# Altium integrated library Silicon Labs Isolation and Power.IntLib: 421 symbols (part 3 of 19)
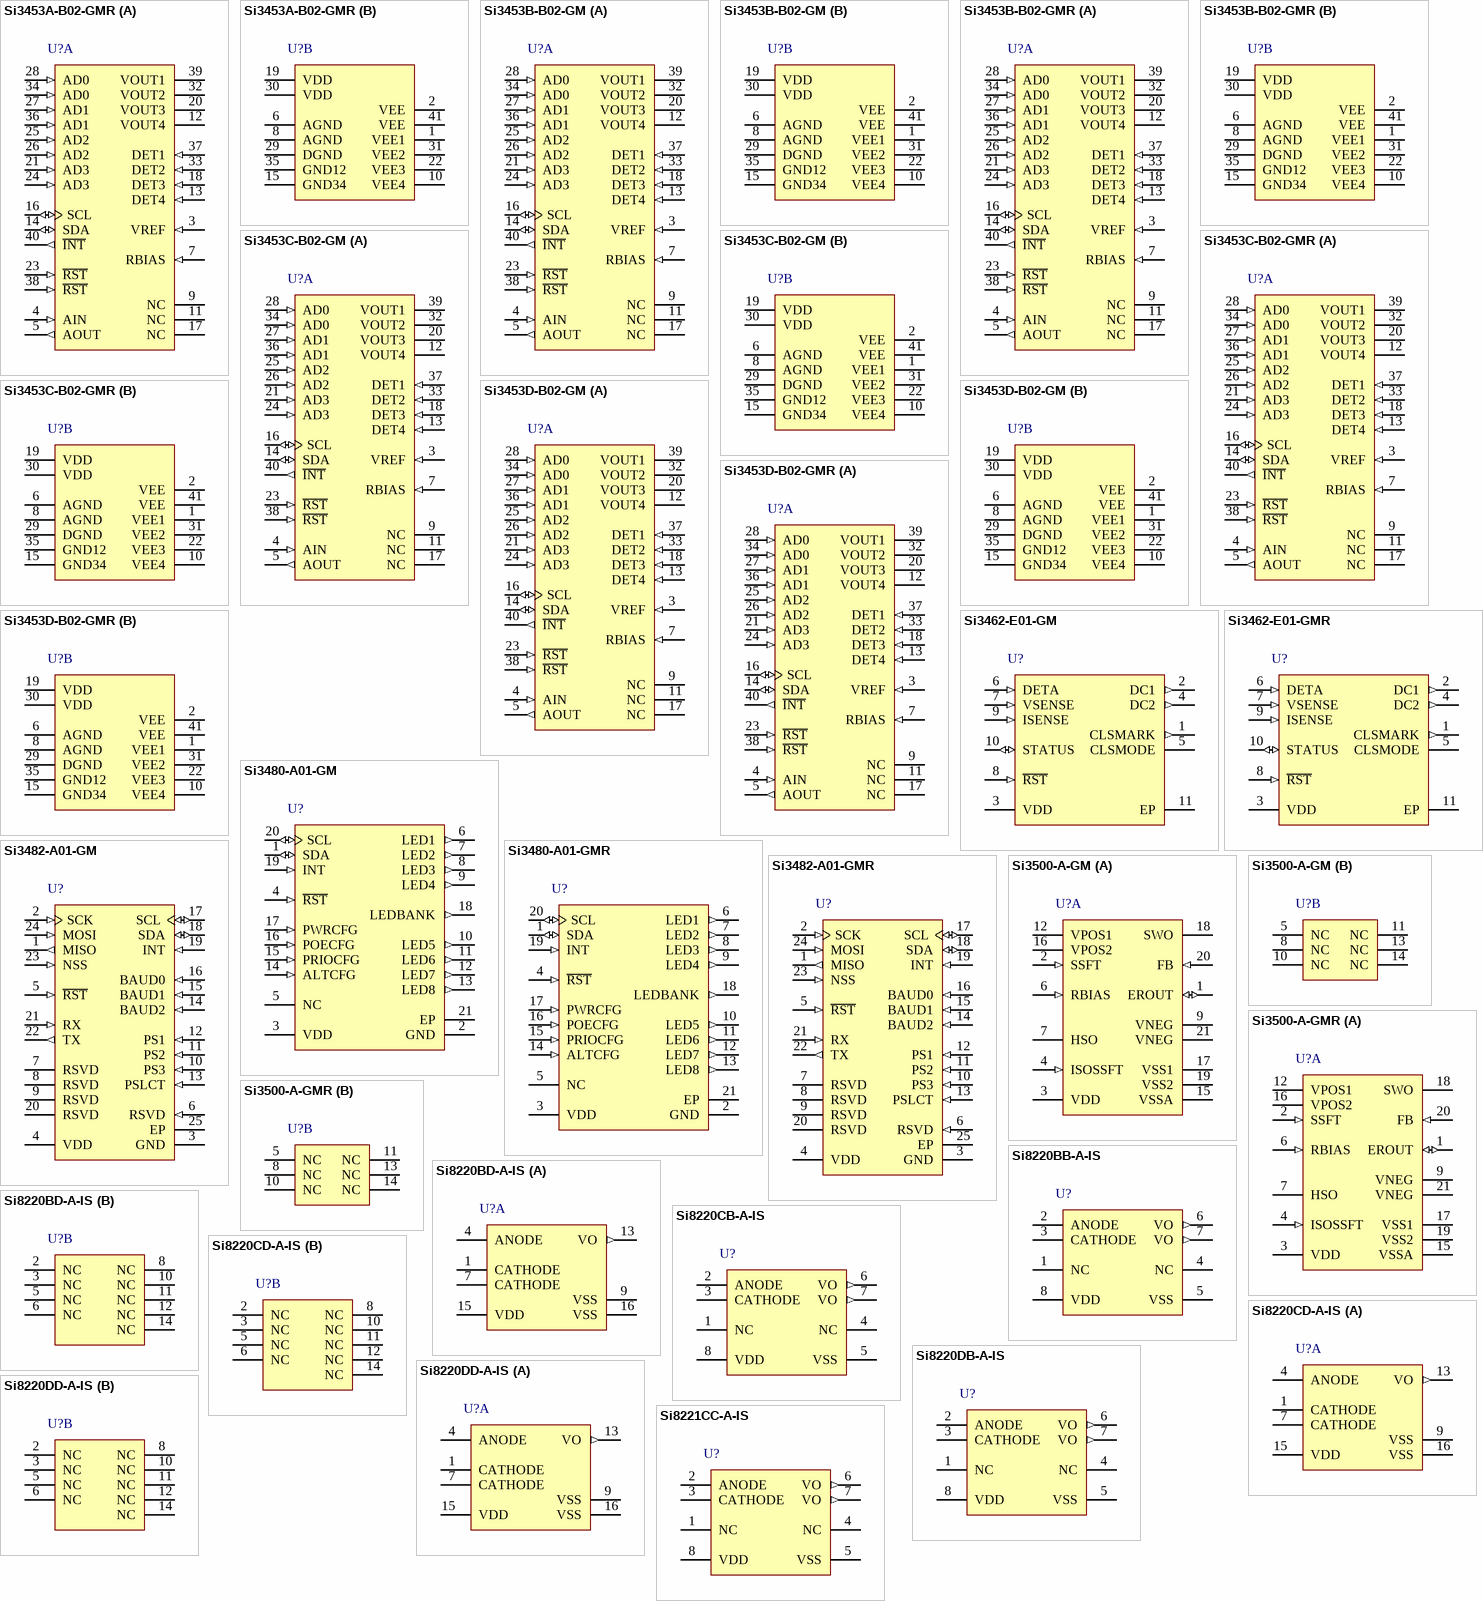
[diagram p16: symbols Si3453A-B02-GMR to Si8221CC-A-IS]

## Si3453C-B02-GMR
designator U?
Quad High-Voltage Port Controller for PoE and PoE+ PSEs, 40 W Maximum Output Power, -40 to 85 degC, 40-pin QFN, Tape and Reel; Manufacturer: Silicon Labs; PartNumber: Si3453C-B02-GMR; Maximum Output Power: 40 W; Sub-Family: Power Over Ethernet Controllers; DatasheetVersion: Rev. 1.3; PackageVersion: Rev. 1.3, 01/2012; PackageReference: QFN-40; PackageDescription: 40-Pin Quad-Flat No-Leads Package, Body 6 x 6 mm, Pitch 0.5 mm; Supplier 1: Digi-Key; Supplier Part Number 1: SI3453C-B02-GMR-ND; Supplier 2: Mouser; Supplier Part Number 2: 634-SI3453C-B02-GMR; Packing: Tape and Reel; Mounting Technology: Surface Mount; Code_JEDEC: MO-220; Code_IPC: J-STD-020; ComponentLink1Description: Manufacturer URL; ComponentLink1URL: http://www.silabs.com/; ComponentLink2Description: Datasheet; ComponentLink2URL: http://www.silabs.com/Support Documents/TechnicalDocs/Si3453.pdf; ComponentLink3Description: Package Specification; ComponentLink3URL: http://www.silabs.com/Support%20Documents/TechnicalDocs/Si3452.pdf
footprint SLAB-QFN-40-4100x4100TP_A_N (QFN, 40-Leads, Body 6x6mm, Pitch 0.5mm, Thermal Pad 4.1X4.1mm, IPC Medium Density)
footprint SLAB-QFN-40-4100x4100TP_A_L (QFN, 40-Leads, Body 6x6mm, Pitch 0.5mm, Thermal Pad 4.1X4.1mm, IPC High Density)
footprint SLAB-QFN-40-4100x4100TP_A_M (QFN, 40-Leads, Body 6x6mm, Pitch 0.5mm, Thermal Pad 4.1X4.1mm, IPC Low Density)
part A pins: 3 VREF (in) "1.1 V nom. voltage reference from reference generator (for example, TLV431 or power management unit).", 4 AIN (in) "Measurement data converter input. Short to AOUT.", 5 AOUT (out) "Measurement multiplexer subsystem output. Short to AIN.", 7 RBIAS (in) "External 44.2 kohm (+/-1%) resistor to ground sets internal bias currents.", 9 NC "Do not connect (float).", 11 NC "Do not connect (float).", 12 VOUT4 (power) "Port 4 power FET switch output. When on, provides a low impedance path to VEE4.", 13 DET4 (in) "Connection for port 4 detection, classification, and transient surge protection. This pin is tied to VOUT4.", 14 SDA (io) "I2C data pin", 16 SCL (io) "I2C clock pin", 17 NC "Do not connect (float).", 18 DET3 (in) "Connection for port 3 detection and classification. See DET4 for detailed description.", 20 VOUT3 (power) "Port 3 power FET switch output. When on, provides a low impedance path to VEE3.", 21 AD3 (in) "Chip address bit 3 pin, read after reset. Address set with defined resistor dividers. Pin also used for internal communications. Short to AD3 pin 24.", 23 ~{RST} (in) "Active low digital reset. Short to R\S\T\ pin 38.", 24 AD3 (in) "Chip address bit 3 pin, read after reset. Address set with a 10 kohm pull-up or pull-down resistor. Also used for internal communications. Short to AD3 pin 21.", 25 AD2 (in) "Chip address bit 2 pin, read after reset. Address set with a 10 kohm pull-up or pull-down resistor. Also used for internal communications. Short to AD2 pin 26.", 26 AD2 (in) "Chip address bit 2 pin, read after reset. Address set with a 10 kohm pull-up or pull-down resistor. Also used for internal communications. Short to AD2 pin 25.", 27 AD1 (in) "Chip address bit 1 pin, read after reset. Address set with a 10 kohm pull-up or pull-down resistor. Also used for internal communications. Short to AD1 pin 36.", 28 AD0 (in) "Chip address bit 0 pin, read after reset. Address set with a 10 kohm pull-up or pull-down resistor. Also used for internal communications. Short to AD0 pin 34.", 32 VOUT2 (power) "Port 2 power FET switch output. When on, provides a low impedance path to VEE2.", 33 DET2 (in) "Connection for port 2 detection and classification. See DET4 for detailed description.", 34 AD0 (in) "Chip address bit 0 pin. See description for- and short to AD0 pin 28.", 36 AD1 (in) "Chip address bit 1 pin. See description for- and short to AD1 pin 27.", 37 DET1 (in) "Connection for port 1 detection and classification. See DET4 for detailed description.", 38 ~{RST} (in) "Active low digital reset. Short to R\S\T\ pin 23.", 39 VOUT1 (power) "Port 1 power FET switch output. When on, provides a low impedance path to VEE1.", 40 ~{INT} (out) "Active low interrupt output pin."
part B pins: 1 VEE1 (power) "Driver 1 VEE supply. Short to VEE, VEE2/3/4.", 2 VEE (power) "Global PoE (-48 V nom.) or PoE+ (-54 V nom.) supply. Short to VEE1/2/3/4.", 6 AGND (power) "Analog ground reference. Short to AGND pin 8, GND12/34, DGND.", 8 AGND (power) "Analog ground reference. Short to AGND pin 6, GND12/34, DGND.", 10 VEE4 (power) "Driver 4 VEE supply. Short to VEE, VEE1/2/3.", 15 GND34 (power) "Ground supply for protection clamps. Short to AGND, GND12, DGND.", 19 VDD (power) "+3.3 V (+/-10%) isolated supply. Short to VDD pin 30.", 22 VEE3 (power) "Driver 3 VEE supply. Short to VEE, VEE1/2/4.", 29 DGND (power) "Digital ground reference. Short to AGND, GND12/34", 30 VDD (power) "+3.3 V isolated supply. Short to VDD pin 19.", 31 VEE2 (power) "Driver 2 VEE supply. Short to VEE, VEE1/3/4.", 35 GND12 (power) "Ground supply for protection clamps. Short to AGND, GND34, DGND.", 41 VEE (power) "Connect the thermal pad to a plane which connects to Vee. For best results, use a 5 x 5 or larger via array for best thermal conductivity with 1 square inch or larger of plane area per device."

## Si3453D-B02-GM
designator U?
Quad High-Voltage Port Controller for PoE and PoE+ PSEs, 40 W Maximum Output Power, -40 to 85 degC, 40-pin QFN; Manufacturer: Silicon Labs; PartNumber: Si3453D-B02-GM; Maximum Output Power: 40 W; Sub-Family: Power Over Ethernet Controllers; DatasheetVersion: Rev. 1.3; PackageVersion: Rev. 1.3, 01/2012; PackageReference: QFN-40; PackageDescription: 40-Pin Quad-Flat No-Leads Package, Body 6 x 6 mm, Pitch 0.5 mm; Supplier 1: Digi-Key; Supplier Part Number 1: SI3453D-B02-GM-ND; Supplier 2: Mouser; Supplier Part Number 2: 634-SI3453D-B02-GM; Mounting Technology: Surface Mount; Code_JEDEC: MO-220; Code_IPC: J-STD-020; ComponentLink1Description: Manufacturer URL; ComponentLink1URL: http://www.silabs.com/; ComponentLink2Description: Datasheet; ComponentLink2URL: http://www.silabs.com/Support Documents/TechnicalDocs/Si3453.pdf; ComponentLink3Description: Package Specification; ComponentLink3URL: http://www.silabs.com/Support%20Documents/TechnicalDocs/Si3452.pdf
footprint SLAB-QFN-40-4100x4100TP_A_N (QFN, 40-Leads, Body 6x6mm, Pitch 0.5mm, Thermal Pad 4.1X4.1mm, IPC Medium Density)
footprint SLAB-QFN-40-4100x4100TP_A_L (QFN, 40-Leads, Body 6x6mm, Pitch 0.5mm, Thermal Pad 4.1X4.1mm, IPC High Density)
footprint SLAB-QFN-40-4100x4100TP_A_M (QFN, 40-Leads, Body 6x6mm, Pitch 0.5mm, Thermal Pad 4.1X4.1mm, IPC Low Density)
part A pins: 3 VREF (in) "1.1 V nom. voltage reference from reference generator (for example, TLV431 or power management unit).", 4 AIN (in) "Measurement data converter input. Short to AOUT.", 5 AOUT (out) "Measurement multiplexer subsystem output. Short to AIN.", 7 RBIAS (in) "External 44.2 kohm (+/-1%) resistor to ground sets internal bias currents.", 9 NC "Do not connect (float).", 11 NC "Do not connect (float).", 12 VOUT4 (power) "Port 4 power FET switch output. When on, provides a low impedance path to VEE4.", 13 DET4 (in) "Connection for port 4 detection, classification, and transient surge protection. This pin is tied to VOUT4.", 14 SDA (io) "I2C data pin", 16 SCL (io) "I2C clock pin", 17 NC "Do not connect (float).", 18 DET3 (in) "Connection for port 3 detection and classification. See DET4 for detailed description.", 20 VOUT3 (power) "Port 3 power FET switch output. When on, provides a low impedance path to VEE3.", 21 AD3 (in) "Chip address bit 3 pin, read after reset. Address set with defined resistor dividers. Pin also used for internal communications. Short to AD3 pin 24.", 23 ~{RST} (in) "Active low digital reset. Short to R\S\T\ pin 38.", 24 AD3 (in) "Chip address bit 3 pin, read after reset. Address set with a 10 kohm pull-up or pull-down resistor. Also used for internal communications. Short to AD3 pin 21.", 25 AD2 (in) "Chip address bit 2 pin, read after reset. Address set with a 10 kohm pull-up or pull-down resistor. Also used for internal communications. Short to AD2 pin 26.", 26 AD2 (in) "Chip address bit 2 pin, read after reset. Address set with a 10 kohm pull-up or pull-down resistor. Also used for internal communications. Short to AD2 pin 25.", 27 AD1 (in) "Chip address bit 1 pin, read after reset. Address set with a 10 kohm pull-up or pull-down resistor. Also used for internal communications. Short to AD1 pin 36.", 28 AD0 (in) "Chip address bit 0 pin, read after reset. Address set with a 10 kohm pull-up or pull-down resistor. Also used for internal communications. Short to AD0 pin 34.", 32 VOUT2 (power) "Port 2 power FET switch output. When on, provides a low impedance path to VEE2.", 33 DET2 (in) "Connection for port 2 detection and classification. See DET4 for detailed description.", 34 AD0 (in) "Chip address bit 0 pin. See description for- and short to AD0 pin 28.", 36 AD1 (in) "Chip address bit 1 pin. See description for- and short to AD1 pin 27.", 37 DET1 (in) "Connection for port 1 detection and classification. See DET4 for detailed description.", 38 ~{RST} (in) "Active low digital reset. Short to R\S\T\ pin 23.", 39 VOUT1 (power) "Port 1 power FET switch output. When on, provides a low impedance path to VEE1.", 40 ~{INT} (out) "Active low interrupt output pin."
part B pins: 1 VEE1 (power) "Driver 1 VEE supply. Short to VEE, VEE2/3/4.", 2 VEE (power) "Global PoE (-48 V nom.) or PoE+ (-54 V nom.) supply. Short to VEE1/2/3/4.", 6 AGND (power) "Analog ground reference. Short to AGND pin 8, GND12/34, DGND.", 8 AGND (power) "Analog ground reference. Short to AGND pin 6, GND12/34, DGND.", 10 VEE4 (power) "Driver 4 VEE supply. Short to VEE, VEE1/2/3.", 15 GND34 (power) "Ground supply for protection clamps. Short to AGND, GND12, DGND.", 19 VDD (power) "+3.3 V (+/-10%) isolated supply. Short to VDD pin 30.", 22 VEE3 (power) "Driver 3 VEE supply. Short to VEE, VEE1/2/4.", 29 DGND (power) "Digital ground reference. Short to AGND, GND12/34", 30 VDD (power) "+3.3 V isolated supply. Short to VDD pin 19.", 31 VEE2 (power) "Driver 2 VEE supply. Short to VEE, VEE1/3/4.", 35 GND12 (power) "Ground supply for protection clamps. Short to AGND, GND34, DGND.", 41 VEE (power) "Connect the thermal pad to a plane which connects to Vee. For best results, use a 5 x 5 or larger via array for best thermal conductivity with 1 square inch or larger of plane area per device."

## Si3453D-B02-GMR
designator U?
Quad High-Voltage Port Controller for PoE and PoE+ PSEs, 40 W Maximum Output Power, -40 to 85 degC, 40-pin QFN, Tape and Reel; Manufacturer: Silicon Labs; PartNumber: Si3453D-B02-GMR; Maximum Output Power: 40 W; Sub-Family: Power Over Ethernet Controllers; DatasheetVersion: Rev. 1.3; PackageVersion: Rev. 1.3, 01/2012; PackageReference: QFN-40; PackageDescription: 40-Pin Quad-Flat No-Leads Package, Body 6 x 6 mm, Pitch 0.5 mm; Supplier 1: Digi-Key; Supplier Part Number 1: SI3453D-B02-GMR-ND; Supplier 2: Mouser; Supplier Part Number 2: 634-SI3453D-B02-GMR; Packing: Tape and Reel; Mounting Technology: Surface Mount; Code_JEDEC: MO-220; Code_IPC: J-STD-020; ComponentLink1Description: Manufacturer URL; ComponentLink1URL: http://www.silabs.com/; ComponentLink2Description: Datasheet; ComponentLink2URL: http://www.silabs.com/Support Documents/TechnicalDocs/Si3453.pdf; ComponentLink3Description: Package Specification; ComponentLink3URL: http://www.silabs.com/Support%20Documents/TechnicalDocs/Si3452.pdf
footprint SLAB-QFN-40-4100x4100TP_A_N (QFN, 40-Leads, Body 6x6mm, Pitch 0.5mm, Thermal Pad 4.1X4.1mm, IPC Medium Density)
footprint SLAB-QFN-40-4100x4100TP_A_L (QFN, 40-Leads, Body 6x6mm, Pitch 0.5mm, Thermal Pad 4.1X4.1mm, IPC High Density)
footprint SLAB-QFN-40-4100x4100TP_A_M (QFN, 40-Leads, Body 6x6mm, Pitch 0.5mm, Thermal Pad 4.1X4.1mm, IPC Low Density)
part A pins: 3 VREF (in) "1.1 V nom. voltage reference from reference generator (for example, TLV431 or power management unit).", 4 AIN (in) "Measurement data converter input. Short to AOUT.", 5 AOUT (out) "Measurement multiplexer subsystem output. Short to AIN.", 7 RBIAS (in) "External 44.2 kohm (+/-1%) resistor to ground sets internal bias currents.", 9 NC "Do not connect (float).", 11 NC "Do not connect (float).", 12 VOUT4 (power) "Port 4 power FET switch output. When on, provides a low impedance path to VEE4.", 13 DET4 (in) "Connection for port 4 detection, classification, and transient surge protection. This pin is tied to VOUT4.", 14 SDA (io) "I2C data pin", 16 SCL (io) "I2C clock pin", 17 NC "Do not connect (float).", 18 DET3 (in) "Connection for port 3 detection and classification. See DET4 for detailed description.", 20 VOUT3 (power) "Port 3 power FET switch output. When on, provides a low impedance path to VEE3.", 21 AD3 (in) "Chip address bit 3 pin, read after reset. Address set with defined resistor dividers. Pin also used for internal communications. Short to AD3 pin 24.", 23 ~{RST} (in) "Active low digital reset. Short to R\S\T\ pin 38.", 24 AD3 (in) "Chip address bit 3 pin, read after reset. Address set with a 10 kohm pull-up or pull-down resistor. Also used for internal communications. Short to AD3 pin 21.", 25 AD2 (in) "Chip address bit 2 pin, read after reset. Address set with a 10 kohm pull-up or pull-down resistor. Also used for internal communications. Short to AD2 pin 26.", 26 AD2 (in) "Chip address bit 2 pin, read after reset. Address set with a 10 kohm pull-up or pull-down resistor. Also used for internal communications. Short to AD2 pin 25.", 27 AD1 (in) "Chip address bit 1 pin, read after reset. Address set with a 10 kohm pull-up or pull-down resistor. Also used for internal communications. Short to AD1 pin 36.", 28 AD0 (in) "Chip address bit 0 pin, read after reset. Address set with a 10 kohm pull-up or pull-down resistor. Also used for internal communications. Short to AD0 pin 34.", 32 VOUT2 (power) "Port 2 power FET switch output. When on, provides a low impedance path to VEE2.", 33 DET2 (in) "Connection for port 2 detection and classification. See DET4 for detailed description.", 34 AD0 (in) "Chip address bit 0 pin. See description for- and short to AD0 pin 28.", 36 AD1 (in) "Chip address bit 1 pin. See description for- and short to AD1 pin 27.", 37 DET1 (in) "Connection for port 1 detection and classification. See DET4 for detailed description.", 38 ~{RST} (in) "Active low digital reset. Short to R\S\T\ pin 23.", 39 VOUT1 (power) "Port 1 power FET switch output. When on, provides a low impedance path to VEE1.", 40 ~{INT} (out) "Active low interrupt output pin."
part B pins: 1 VEE1 (power) "Driver 1 VEE supply. Short to VEE, VEE2/3/4.", 2 VEE (power) "Global PoE (-48 V nom.) or PoE+ (-54 V nom.) supply. Short to VEE1/2/3/4.", 6 AGND (power) "Analog ground reference. Short to AGND pin 8, GND12/34, DGND.", 8 AGND (power) "Analog ground reference. Short to AGND pin 6, GND12/34, DGND.", 10 VEE4 (power) "Driver 4 VEE supply. Short to VEE, VEE1/2/3.", 15 GND34 (power) "Ground supply for protection clamps. Short to AGND, GND12, DGND.", 19 VDD (power) "+3.3 V (+/-10%) isolated supply. Short to VDD pin 30.", 22 VEE3 (power) "Driver 3 VEE supply. Short to VEE, VEE1/2/4.", 29 DGND (power) "Digital ground reference. Short to AGND, GND12/34", 30 VDD (power) "+3.3 V isolated supply. Short to VDD pin 19.", 31 VEE2 (power) "Driver 2 VEE supply. Short to VEE, VEE1/3/4.", 35 GND12 (power) "Ground supply for protection clamps. Short to AGND, GND34, DGND.", 41 VEE (power) "Connect the thermal pad to a plane which connects to Vee. For best results, use a 5 x 5 or larger via array for best thermal conductivity with 1 square inch or larger of plane area per device."

## Si3462-E01-GM
designator U?
Single-Port IEEE 802.3 at PoE and PoE+ PSE Interface, 30 W Maximum Output Power, -40 to 85 degC, 11-pin QFN; Manufacturer: Silicon Labs; PartNumber: Si3462-E01-GM; Maximum Output Power: 30 W; Sub-Family: Power Over Ethernet Controllers; DatasheetVersion: Rev. 1.0; PackageReference: QFN-11; PackageDescription: 11-Pin Quad-Flat No-Leads Package, Body 3 x 3 mm, Pitch 0.5 mm; Supplier 1: Digi-Key; Supplier Part Number 1: SI3462-E01-GM-ND; Supplier 2: Mouser; Supplier Part Number 2: 634-SI3462-E01-GM; Mounting Technology: Surface Mount; Code_JEDEC: MO-243; Code_IPC: J-STD-020C; ComponentLink1Description: Manufacturer URL; ComponentLink1URL: http://www.silabs.com/; ComponentLink2Description: Datasheet; ComponentLink2URL: http://www.silabs.com/Support Documents/TechnicalDocs/Si3462.pdf; ComponentLink3Description: Package Specification; ComponentLink3URL: http://www.silabs.com/Support%20Documents/TechnicalDocs/Si3462.pdf
footprint SLAB-QFN-11-1350x2250TP_N (QFN, 11-Leads, Body 3x3mm, Pitch 0.5mm, Thermal Pad 3x1.35mm, IPC Medium Density)
footprint SLAB-QFN-11-1350x2250TP_L (QFN, 11-Leads, Body 3x3mm, Pitch 0.5mm, Thermal Pad 3x1.35mm, IPC High Density)
footprint SLAB-QFN-11-1350x2250TP_M (QFN, 11-Leads, Body 3x3mm, Pitch 0.5mm, Thermal Pad 3x1.35mm, IPC Low Density)
pins: 1 CLSMARK (out) "Logic high on this output increases the current capability of the detection circuitry while used for mark pulse generation. Refer tothe Si3462-EVB schematics. If classification mark is not utilized,this signal is ignored.", 2 DC1 (out) "This is a PWM output providing the dc control voltage for the detection circuitry. It is also combined with the DC2 output in a ratio of 1:256 to provide the gate control voltage of the pass FET.", 3 VDD (power) "3.3 V power supply input.", 4 DC2 (out) "This is a PWM output that (combined with the DC1 output) provides the gate control voltage of the pass FET with high resolution.", 5 CLSMODE (oc) "This is an open drain output. When high, it enables the feedback path controlling the 18 V classification voltage. If classification is not utilized, this signal is ignored.", 6 DETA (in) "DETA is an analog input pin. During the detection process, the DC1 pin duty cycle is varied to generate filtered dc voltages across the load, and the voltage drop across a current sensing resistor is measured through the (See Datasheet)", 7 VSENSE (in) "VSENSE is an analog input used for sensing the input dc voltage", 8 ~{RST} (in) "Active low reset input. When low, it places the Si3462 device into an inactive state. When pulled high, the device begins the detection process sequence.", 9 ISENSE (in) "ISENSE is an analog input connected to a current sense resistor for output current sensing.", 10 STATUS (io) "At power-up, the voltage on this pin is sensed to configure the PSE available power, mid span/end span timing mode and the device's restart behavior when a fault condition is detected. Refer to "4.2. Operating Mode (See Datasheet)", 11 EP (power) "Ground connection for the Si3462"

## Si3462-E01-GMR
designator U?
Single-Port IEEE 802.3 at PoE and PoE+ PSE Interface, 30 W Maximum Output Power, -40 to 85 degC, 11-pin QFN, Tape and Reel; Manufacturer: Silicon Labs; PartNumber: Si3462-E01-GMR; Maximum Output Power: 30 W; Sub-Family: Power Over Ethernet Controllers; DatasheetVersion: Rev. 1.0; PackageReference: QFN-11; PackageDescription: 11-Pin Quad-Flat No-Leads Package, Body 3 x 3 mm, Pitch 0.5 mm; Supplier 1: Digi-Key; Supplier Part Number 1: SI3462-E01-GMR-ND; Supplier 2: Mouser; Supplier Part Number 2: 634-SI3462-E01-GMR; Packing: Tape and Reel; Mounting Technology: Surface Mount; Code_JEDEC: MO-243; Code_IPC: J-STD-020C; ComponentLink1Description: Manufacturer URL; ComponentLink1URL: http://www.silabs.com/; ComponentLink2Description: Datasheet; ComponentLink2URL: http://www.silabs.com/Support Documents/TechnicalDocs/Si3462.pdf; ComponentLink3Description: Package Specification; ComponentLink3URL: http://www.silabs.com/Support%20Documents/TechnicalDocs/Si3462.pdf
footprint SLAB-QFN-11-1350x2250TP_N (QFN, 11-Leads, Body 3x3mm, Pitch 0.5mm, Thermal Pad 3x1.35mm, IPC Medium Density)
footprint SLAB-QFN-11-1350x2250TP_L (QFN, 11-Leads, Body 3x3mm, Pitch 0.5mm, Thermal Pad 3x1.35mm, IPC High Density)
footprint SLAB-QFN-11-1350x2250TP_M (QFN, 11-Leads, Body 3x3mm, Pitch 0.5mm, Thermal Pad 3x1.35mm, IPC Low Density)
pins: 1 CLSMARK (out) "Logic high on this output increases the current capability of the detection circuitry while used for mark pulse generation. Refer tothe Si3462-EVB schematics. If classification mark is not utilized,this signal is ignored.", 2 DC1 (out) "This is a PWM output providing the dc control voltage for the detection circuitry. It is also combined with the DC2 output in a ratio of 1:256 to provide the gate control voltage of the pass FET.", 3 VDD (power) "3.3 V power supply input.", 4 DC2 (out) "This is a PWM output that (combined with the DC1 output) provides the gate control voltage of the pass FET with high resolution.", 5 CLSMODE (oc) "This is an open drain output. When high, it enables the feedback path controlling the 18 V classification voltage. If classification is not utilized, this signal is ignored.", 6 DETA (in) "DETA is an analog input pin. During the detection process, the DC1 pin duty cycle is varied to generate filtered dc voltages across the load, and the voltage drop across a current sensing resistor is measured through the (See Datasheet)", 7 VSENSE (in) "VSENSE is an analog input used for sensing the input dc voltage", 8 ~{RST} (in) "Active low reset input. When low, it places the Si3462 device into an inactive state. When pulled high, the device begins the detection process sequence.", 9 ISENSE (in) "ISENSE is an analog input connected to a current sense resistor for output current sensing.", 10 STATUS (io) "At power-up, the voltage on this pin is sensed to configure the PSE available power, mid span/end span timing mode and the device's restart behavior when a fault condition is detected. Refer to "4.2. Operating Mode (See Datasheet)", 11 EP (power) "Ground connection for the Si3462"

## Si3480-A01-GM
designator U?
Power Management Controller, 30 W Maximum Output Power, -40 to 85 degC, 20-pin QFN; Manufacturer: Silicon Labs; PartNumber: Si3480-A01-GM; Maximum Output Power: 30 W; Sub-Family: Power Over Ethernet Controllers; DatasheetVersion: Rev. 1.0; PackageReference: QFN-20; PackageDescription: 20-Pin Quad-Flat No-Leads Package, Body 4 x 4 mm, Pitch 0.5 mm; Supplier 1: Digi-Key; Supplier Part Number 1: SI3480-A01-GM-ND; Supplier 2: Mouser; Supplier Part Number 2: 634-SI3480-A01-GM; Mounting Technology: Surface Mount; Code_JEDEC: MO-220; Code_IPC: J-STD-020; ComponentLink1Description: Manufacturer URL; ComponentLink1URL: http://www.silabs.com/; ComponentLink2Description: Datasheet; ComponentLink2URL: http://www.silabs.com/Support Documents/TechnicalDocs/Si3480.pdf; ComponentLink3Description: Package Specification; ComponentLink3URL: http://www.silabs.com/Support%20Documents/TechnicalDocs/C8051F80x-83x.pdf
footprint SLAB-QFN-20-2125x2125TP_N (QFN, 20-Leads, Body 4x4mm, Pitch 0.5mm, Thermal Pad 2.13x2.13mm, IPC Medium Density)
footprint SLAB-QFN-20-2125x2125TP_L (QFN, 20-Leads, Body 4x4mm, Pitch 0.5mm, Thermal Pad 2.13x2.13mm, IPC High Density)
footprint SLAB-QFN-20-2125x2125TP_M (QFN, 20-Leads, Body 4x4mm, Pitch 0.5mm, Thermal Pad 2.13x2.13mm, IPC Low Density)
pins: 1 SDA (io) "Connect to Si3452 SDA and pull-up resistor.", 2 GND (power) "Ground.", 3 VDD (power) "VDD.", 4 ~{RST} (in) "Reset (a low will reset the Si3480).", 5 NC "Do not connect to this pin.", 6 LED1 (out) "Pins LED1-LED4 work with Pin LEDBANK to drive the eight power meter LEDs.", 7 LED2 (out) "Pins LED1-LED4 work with Pin LEDBANK to drive the eight power meter LEDs.", 8 LED3 (out) "Pins LED1-LED4 work with Pin LEDBANK to drive the eight power meter LEDs.", 9 LED4 (out) "Pins LED1-LED4 work with Pin LEDBANK to drive the eight power meter LEDs.", 10 LED5 (out) "Pins LED5 - LED8 work with Pin LEDBANK to drive the eight port status LEDs.", 11 LED6 (out) "Pins LED5 - LED8 work with Pin LEDBANK to drive the eight port status LEDs.", 12 LED7 (out) "Pins LED5 - LED8 work with Pin LEDBANK to drive the eight port status LEDs.", 13 LED8 (out) "Pins LED5 - LED8 work with Pin LEDBANK to drive the eight port status LEDs.", 14 ALTCFG (in) "Low is Alternative A timing, High is Alternative B timing.", 15 PRIOCFG (in) "This pin sets the number of ports that are high priority.", 16 POECFG (in) "The pin sets the number of ports that are high power.", 17 PWRCFG (in) "This pin sets the power provided.", 18 LEDBANK (out) "This pin determines which LED bank is being turned on.", 19 INT (in) "Connect to Si3452 INT and pull up resistor.", 20 SCL (io) "Connect to Si3452 SCL and pull up resistor.", 21 EP

## Si3480-A01-GMR
designator U?
Power Management Controller, 30 W Maximum Output Power, -40 to 85 degC, 20-pin QFN, Tape and Reel; Manufacturer: Silicon Labs; PartNumber: Si3480-A01-GMR; Maximum Output Power: 30 W; Sub-Family: Power Over Ethernet Controllers; DatasheetVersion: Rev. 1.0; PackageReference: QFN-20; PackageDescription: 20-Pin Quad-Flat No-Leads Package, Body 4 x 4 mm, Pitch 0.5 mm; Supplier 1: Digi-Key; Supplier Part Number 1: SI3480-A01-GMR-ND; Supplier 2: Mouser; Supplier Part Number 2: 634-SI3480-A01-GMR; Packing: Tape and Reel; Mounting Technology: Surface Mount; Code_JEDEC: MO-220; Code_IPC: J-STD-020; ComponentLink1Description: Manufacturer URL; ComponentLink1URL: http://www.silabs.com/; ComponentLink2Description: Datasheet; ComponentLink2URL: http://www.silabs.com/Support Documents/TechnicalDocs/Si3480.pdf; ComponentLink3Description: Package Specification; ComponentLink3URL: http://www.silabs.com/Support%20Documents/TechnicalDocs/C8051F80x-83x.pdf
footprint SLAB-QFN-20-2125x2125TP_N (QFN, 20-Leads, Body 4x4mm, Pitch 0.5mm, Thermal Pad 2.13x2.13mm, IPC Medium Density)
footprint SLAB-QFN-20-2125x2125TP_L (QFN, 20-Leads, Body 4x4mm, Pitch 0.5mm, Thermal Pad 2.13x2.13mm, IPC High Density)
footprint SLAB-QFN-20-2125x2125TP_M (QFN, 20-Leads, Body 4x4mm, Pitch 0.5mm, Thermal Pad 2.13x2.13mm, IPC Low Density)
pins: 1 SDA (io) "Connect to Si3452 SDA and pull-up resistor.", 2 GND (power) "Ground.", 3 VDD (power) "VDD.", 4 ~{RST} (in) "Reset (a low will reset the Si3480).", 5 NC "Do not connect to this pin.", 6 LED1 (out) "Pins LED1-LED4 work with Pin LEDBANK to drive the eight power meter LEDs.", 7 LED2 (out) "Pins LED1-LED4 work with Pin LEDBANK to drive the eight power meter LEDs.", 8 LED3 (out) "Pins LED1-LED4 work with Pin LEDBANK to drive the eight power meter LEDs.", 9 LED4 (out) "Pins LED1-LED4 work with Pin LEDBANK to drive the eight power meter LEDs.", 10 LED5 (out) "Pins LED5 - LED8 work with Pin LEDBANK to drive the eight port status LEDs.", 11 LED6 (out) "Pins LED5 - LED8 work with Pin LEDBANK to drive the eight port status LEDs.", 12 LED7 (out) "Pins LED5 - LED8 work with Pin LEDBANK to drive the eight port status LEDs.", 13 LED8 (out) "Pins LED5 - LED8 work with Pin LEDBANK to drive the eight port status LEDs.", 14 ALTCFG (in) "Low is Alternative A timing, High is Alternative B timing.", 15 PRIOCFG (in) "This pin sets the number of ports that are high priority.", 16 POECFG (in) "The pin sets the number of ports that are high power.", 17 PWRCFG (in) "This pin sets the power provided.", 18 LEDBANK (out) "This pin determines which LED bank is being turned on.", 19 INT (in) "Connect to Si3452 INT and pull up resistor.", 20 SCL (io) "Connect to Si3452 SCL and pull up resistor.", 21 EP

## Si3482-A01-GM
designator U?
Power Management Controller, 30 W Maximum Output Power, -40 to 85 degC, 24-pin QFN; Manufacturer: Silicon Labs; PartNumber: Si3482-A01-GM; Maximum Output Power: 30 W; Sub-Family: Power Over Ethernet Controllers; DatasheetVersion: Rev. 0.1; PackageReference: QFN-24; PackageDescription: 24-Pin Quad-Flat No-Leads Package, Body 4 x 4 mm, Pitch 0.5 mm; Supplier 1: Digi-Key; Supplier Part Number 1: SI3482-A01-GM-ND; Supplier 2: Mouser; Supplier Part Number 2: 634-SI3482-A01-GM; Mounting Technology: Surface Mount; ComponentLink1Description: Manufacturer URL; ComponentLink1URL: http://www.silabs.com/; ComponentLink2Description: Datasheet; ComponentLink2URL: http://www.silabs.com/Support Documents/TechnicalDocs/Si3482.pdf; ComponentLink3Description: Package Specification; ComponentLink3URL: http://www.silabs.com/Support%20Documents/TechnicalDocs/Si3482.pdf
footprint SLAB-QFN-24-2600x2600TP_V (QFN, 24-Leads, Body 4x4mm, Pitch 0.5mm, Thermal Pad 2.6x2.6mm)
pins: 1 MISO (out) "SPI output.", 2 SCK (in) "SPI clock.", 3 GND (power) "Ground.", 4 VDD (power) "VDD.", 5 ~{RST} (in) "Reset (a low will reset the Si3480).", 6 RSVD (in) "Reserved-tie low.", 7 RSVD "Do not connect.", 8 RSVD "Do not connect.", 9 RSVD "Do not connect.", 10 PS3 (in) "Logic high indicates the power supply is available.", 11 PS2 (in) "Logic high indicates the power supply is available.", 12 PS1 (in) "Logic high indicates the power supply is available.", 13 PSLCT (in) "Tie high or low to select between SPI and UART interface.", 14 BAUD2 (in) "Tie high or low to select UART baud rate.", 15 BAUD1 (in) "Tie high or low to select UART baud rate.", 16 BAUD0 (in) "Tie high or low to select UART baud rate.", 17 SCL (io) "Connect to Si3452 SCL and pull up resistor.", 18 SDA (io) "Connect to Si3452 SDA and pull up resistor.", 19 INT (in) "Connect to Si3452 INT and pull up resistor.", 20 RSVD "Do not connect.", 21 RX (in) "UART receive.", 22 TX (out) "UART transmit.", 23 NSS (in) "SPI select.", 24 MOSI (in) "SPI input.", 25 EP

## Si3482-A01-GMR
designator U?
Power Management Controller, 30 W Maximum Output Power, -40 to 85 degC, 24-pin QFN, Tape and Reel; Manufacturer: Silicon Labs; PartNumber: Si3482-A01-GMR; Maximum Output Power: 30 W; Sub-Family: Power Over Ethernet Controllers; DatasheetVersion: Rev. 0.1; PackageReference: QFN-24; PackageDescription: 24-Pin Quad-Flat No-Leads Package, Body 4 x 4 mm, Pitch 0.5 mm; Supplier 1: Digi-Key; Supplier Part Number 1: SI3482-A01-GMR-ND; Supplier 2: Mouser; Supplier Part Number 2: 634-SI3482-A01-GMR; Packing: Tape and Reel; Mounting Technology: Surface Mount; ComponentLink1Description: Manufacturer URL; ComponentLink1URL: http://www.silabs.com/; ComponentLink2Description: Datasheet; ComponentLink2URL: http://www.silabs.com/Support Documents/TechnicalDocs/Si3482.pdf; ComponentLink3Description: Package Specification; ComponentLink3URL: http://www.silabs.com/Support%20Documents/TechnicalDocs/Si3482.pdf
footprint SLAB-QFN-24-2600x2600TP_V (QFN, 24-Leads, Body 4x4mm, Pitch 0.5mm, Thermal Pad 2.6x2.6mm)
pins: 1 MISO (out) "SPI output.", 2 SCK (in) "SPI clock.", 3 GND (power) "Ground.", 4 VDD (power) "VDD.", 5 ~{RST} (in) "Reset (a low will reset the Si3480).", 6 RSVD (in) "Reserved-tie low.", 7 RSVD "Do not connect.", 8 RSVD "Do not connect.", 9 RSVD "Do not connect.", 10 PS3 (in) "Logic high indicates the power supply is available.", 11 PS2 (in) "Logic high indicates the power supply is available.", 12 PS1 (in) "Logic high indicates the power supply is available.", 13 PSLCT (in) "Tie high or low to select between SPI and UART interface.", 14 BAUD2 (in) "Tie high or low to select UART baud rate.", 15 BAUD1 (in) "Tie high or low to select UART baud rate.", 16 BAUD0 (in) "Tie high or low to select UART baud rate.", 17 SCL (io) "Connect to Si3452 SCL and pull up resistor.", 18 SDA (io) "Connect to Si3452 SDA and pull up resistor.", 19 INT (in) "Connect to Si3452 INT and pull up resistor.", 20 RSVD "Do not connect.", 21 RX (in) "UART receive.", 22 TX (out) "UART transmit.", 23 NSS (in) "SPI select.", 24 MOSI (in) "SPI input.", 25 EP

## Si3500-A-GM
designator U?
50 V Input DC to DC Converter, 10 W Maximum Output Power, -40 to 85 degC, 20-pin QFN; Manufacturer: Silicon Labs; PartNumber: Si3500-A-GM; Maximum Output Power: 10 W; Sub-Family: Power Over Ethernet Controllers; DatasheetVersion: Rev. 1.1; PackageReference: QFN-20; PackageDescription: 20-Pin Quad-Flat No-Leads Package, Body 5 x 5 mm, Pitch 0.8 mm; Supplier 1: Digi-Key; Supplier Part Number 1: 336-1844-5-ND; Supplier 2: Mouser; Supplier Part Number 2: 634-SI3500-A-GM; Mounting Technology: Surface Mount; Code_JEDEC: MO-220; ComponentLink1Description: Manufacturer URL; ComponentLink1URL: http://www.silabs.com/; ComponentLink2Description: Datasheet; ComponentLink2URL: http://www.silabs.com/Support Documents/TechnicalDocs/Si3500.pdf; ComponentLink3Description: Package Specification; ComponentLink3URL: http://www.silabs.com/Support%20Documents/TechnicalDocs/Si3402.pdf
footprint SLAB-QFN-20-2700x2700TP_B_N (QFN, 20-Leads, Body 5x5mm, Pitch 0.8mm, Thermal Pad 2.7x2.7mm, IPC Medium Density)
footprint SLAB-QFN-20-2700x2700TP_B_L (QFN, 20-Leads, Body 5x5mm, Pitch 0.8mm, Thermal Pad 2.7x2.7mm, IPC High Density)
footprint SLAB-QFN-20-2700x2700TP_B_M (QFN, 20-Leads, Body 5x5mm, Pitch 0.8mm, Thermal Pad 2.7x2.7mm, IPC Low Density)
part A pins: 1 EROUT (io) "Error-amplifier output and PWM input; directly connected to opto-coupler in isolated or boost applications.", 2 SSFT (in) "Soft-start output pin ramps voltage across external soft-start capacitor to allow switcher to ramp output slowly.", 3 VDD (power) "5 V supply rail for switcher; provides drive for opto-coupler.", 4 ISOSSFT (in) "Isolated mode soft start enable input. Tie to VDD for non-isolated applications. Connect a 0.1 uF capacitor between this pin and VSSA for isolated applications.", 6 RBIAS (in) "A 25.5 kohm resistor connected from this to VPOS sets up the bias currents of the Si3500.", 7 HSO (hiz) "Hotswap switch output; connects to VNEG through hotswap switch.", 9 VNEG (power) "Rectified high-voltage supply, negative rail. Must be connected to thermal PAD node (VNEG) on package bottom. This thermal pad must be connected to VNEG (pin #9) as well as a 2 in2 heat spreader plane using a minimum of nine (See Datasheet)", 12 VPOS1 (power) "High-voltage supply, positive rail (force node)", 15 VSSA (power) "Analog ground.", 16 VPOS2 (power) "High-voltage supply, positive rail sense node.", 17 VSS1 (power) "Negative supply rail for switcher; externally tied to HSO.", 18 SWO (oc) "Switching transistor output; drain of switching N-FET.", 19 VSS2 (power) "Negative supply rail for switcher; externally tied to HSO.", 20 FB (in) "Regulated feedback input in non-isolated application.", 21 VNEG (power) "Rectified high-voltage supply, negative rail. Must be connected to thermal PAD node (VNEG) on package bottom. This thermal pad must be connected to VNEG (pin #9) as well as a 2 in2 heat spreader plane using a minimum of nine (See Datasheet)"
part B pins: 5 NC "Do not connect (float).", 8 NC "Do not connect (float).", 10 NC "Do not connect (float).", 11 NC "Do not connect (float).", 13 NC "Do not connect (float).", 14 NC "Do not connect (float)."

## Si3500-A-GMR
designator U?
50 V Input DC to DC Converter, 10 W Maximum Output Power, -40 to 85 degC, 20-pin QFN, Tape and Reel; Manufacturer: Silicon Labs; PartNumber: Si3500-A-GMR; Maximum Output Power: 10 W; Sub-Family: Power Over Ethernet Controllers; DatasheetVersion: Rev. 1.1; PackageReference: QFN-20; PackageDescription: 20-Pin Quad-Flat No-Leads Package, Body 5 x 5 mm, Pitch 0.8 mm; Supplier 1: Digi-Key; Supplier Part Number 1: SI3500-A-GMR-ND; Supplier 2: Mouser; Supplier Part Number 2: 634-SI3500-A-GMR; Packing: Tape and Reel; Mounting Technology: Surface Mount; Code_JEDEC: MO-220; ComponentLink1Description: Manufacturer URL; ComponentLink1URL: http://www.silabs.com/; ComponentLink2Description: Datasheet; ComponentLink2URL: http://www.silabs.com/Support Documents/TechnicalDocs/Si3500.pdf; ComponentLink3Description: Package Specification; ComponentLink3URL: http://www.silabs.com/Support%20Documents/TechnicalDocs/Si3402.pdf
footprint SLAB-QFN-20-2700x2700TP_B_N (QFN, 20-Leads, Body 5x5mm, Pitch 0.8mm, Thermal Pad 2.7x2.7mm, IPC Medium Density)
footprint SLAB-QFN-20-2700x2700TP_B_L (QFN, 20-Leads, Body 5x5mm, Pitch 0.8mm, Thermal Pad 2.7x2.7mm, IPC High Density)
footprint SLAB-QFN-20-2700x2700TP_B_M (QFN, 20-Leads, Body 5x5mm, Pitch 0.8mm, Thermal Pad 2.7x2.7mm, IPC Low Density)
part A pins: 1 EROUT (io) "Error-amplifier output and PWM input; directly connected to opto-coupler in isolated or boost applications.", 2 SSFT (in) "Soft-start output pin ramps voltage across external soft-start capacitor to allow switcher to ramp output slowly.", 3 VDD (power) "5 V supply rail for switcher; provides drive for opto-coupler.", 4 ISOSSFT (in) "Isolated mode soft start enable input. Tie to VDD for non-isolated applications. Connect a 0.1 uF capacitor between this pin and VSSA for isolated applications.", 6 RBIAS (in) "A 25.5 kohm resistor connected from this to VPOS sets up the bias currents of the Si3500.", 7 HSO (hiz) "Hotswap switch output; connects to VNEG through hotswap switch.", 9 VNEG (power) "Rectified high-voltage supply, negative rail. Must be connected to thermal PAD node (VNEG) on package bottom. This thermal pad must be connected to VNEG (pin #9) as well as a 2 in2 heat spreader plane using a minimum of nine (See Datasheet)", 12 VPOS1 (power) "High-voltage supply, positive rail (force node)", 15 VSSA (power) "Analog ground.", 16 VPOS2 (power) "High-voltage supply, positive rail sense node.", 17 VSS1 (power) "Negative supply rail for switcher; externally tied to HSO.", 18 SWO (oc) "Switching transistor output; drain of switching N-FET.", 19 VSS2 (power) "Negative supply rail for switcher; externally tied to HSO.", 20 FB (in) "Regulated feedback input in non-isolated application.", 21 VNEG (power) "Rectified high-voltage supply, negative rail. Must be connected to thermal PAD node (VNEG) on package bottom. This thermal pad must be connected to VNEG (pin #9) as well as a 2 in2 heat spreader plane using a minimum of nine (See Datasheet)"
part B pins: 5 NC "Do not connect (float).", 8 NC "Do not connect (float).", 10 NC "Do not connect (float).", 11 NC "Do not connect (float).", 13 NC "Do not connect (float).", 14 NC "Do not connect (float)."

## Si8220BB-A-IS
designator U?
2.5 A ISOdrivers with Opto Input, 6.5 to 24 V Driver Supply, 2.5 kVRMS Isolation Rating, -40 to 125 degC, 8-pin SOIC; Manufacturer: Silicon Labs; PartNumber: Si8220BB-A-IS; 10kV surge: FALSE; Isolation Rating (Input-Output, kVrms): 2.5; Max. Prop. Delay (ns): 60; UVLO Voltage: 8 V; DatasheetVersion: Rev. 1.2; PackageReference: SOIC-8-NB; PackageDescription: 8-Pin Narrow Body Plastic Small Outline, Body 4.9 x 3.9 mm, Pitch 1.27 mm; Supplier 1: Digi-Key; Supplier Part Number 1: SI8220BB-A-IS-ND; Supplier 2: Mouser; Supplier Part Number 2: 634-SI8220BB-A-IS; Driver Supply: 6.5 to 24 V; Overlap Protection & Dead Time Control: FALSE; Sub-Family: ISOdrivers; Mounting Technology: Surface Mount; ComponentLink1Description: Manufacturer URL; ComponentLink1URL: http://www.silabs.com/; ComponentLink2Description: Datasheet; ComponentLink2URL: http://www.silabs.com/Support%20Documents/TechnicalDocs/Si8220-21.pdf; ComponentLink3Description: Package Specification; ComponentLink3URL: http://www.silabs.com/Support%20Documents/TechnicalDocs/Si8220-21.pdf
footprint SLAB-SOIC-8-NB_N (SOIC, 8-Leads, Body 5x4mm, Pitch 1.27mm, IPC Medium Density)
footprint SLAB-SOIC-8-NB_L (SOIC, 8-Leads, Body 5x4mm, Pitch 1.27mm, IPC High Density)
footprint SLAB-SOIC-8-NB_M (SOIC, 8-Leads, Body 5x4mm, Pitch 1.27mm, IPC Low Density)
pins: 1 NC "No connect.", 2 ANODE "Anode of LED emulator. VO follows the signal applied to this input with respect to the CATHODE input.", 3 CATHODE "Cathode of LED emulator. VO follows the signal applied to ANODE with respect to this input", 4 NC "No connect.", 5 VSS (power) "External MOSFET source connection and ground reference for VDD. This terminal is typically connected to ground but may be tied to a negative or positive voltage.", 6 VO (out) "Output signal.", 7 VO (out) "Output signal.", 8 VDD (power) "Output-side power supply input referenced to VSS (24 V max)."

## Si8220BD-A-IS
designator U?
2.5 A ISOdrivers with Opto Input, 6.5 to 24 V Driver Supply, 5 kVRMS Isolation Rating, -40 to 125 degC, 16-pin SOIC; Manufacturer: Silicon Labs; PartNumber: Si8220BD-A-IS; 10kV surge: FALSE; Isolation Rating (Input-Output, kVrms): 5; Max. Prop. Delay (ns): 60; UVLO Voltage: 8 V; DatasheetVersion: Rev. 1.2; PackageReference: SOIC-16-WB; PackageDescription: 16-Pin Wide Body Plastic Small Outline, Body 10.3 x 7.5 mm, Pitch 1.27 mm; Supplier 1: Digi-Key; Supplier Part Number 1: SI8220BD-A-IS-ND; Supplier 2: Mouser; Supplier Part Number 2: 634-SI8220BD-A-IS; Driver Supply: 6.5 to 24 V; Overlap Protection & Dead Time Control: FALSE; Sub-Family: ISOdrivers; Mounting Technology: Surface Mount; Code_JEDEC: MS-013; ComponentLink1Description: Manufacturer URL; ComponentLink1URL: http://www.silabs.com/; ComponentLink2Description: Datasheet; ComponentLink2URL: http://www.silabs.com/Support%20Documents/TechnicalDocs/Si8220-21.pdf; ComponentLink3Description: Package Specification; ComponentLink3URL: https://www.silabs.com/Support%20Documents/TechnicalDocs/Si823x.pdf
footprint SLAB-SOIC-16-WB_N (SOIC, 16-Leads, Body 10.3x7.5mm, Pitch 1.27mm, IPC Medium Density)
footprint SLAB-SOIC-16-WB_L (SOIC, 16-Leads, Body 10.3x7.5mm, Pitch 1.27mm, IPC High Density)
footprint SLAB-SOIC-16-WB_M (SOIC, 16-Leads, Body 10.3x7.5mm, Pitch 1.27mm, IPC Low Density)
part A pins: 1 CATHODE "Cathode of LED emulator. VO follows the signal applied to ANODE with respect to this input.", 4 ANODE "Anode of LED emulator. VO follows the signal applied to this input with respect to the CATHODE input.", 7 CATHODE "Cathode of LED emulator. VO follows the signal applied to ANODE with respect to this input.", 9 VSS (power) "External MOSFET source connection and ground reference for VDD. This terminal is typically connected to ground but may be tied to a negative or positive voltage.", 13 VO (out) "Output signal.", 15 VDD (power) "Output-side power supply input referenced to VSS (24 V max).", 16 VSS (power) "External MOSFET source connection and ground reference for VDD. This terminal is typically connected to ground but may be tied to a negative or positive voltage."
part B pins: 2 NC "No connect.", 3 NC "No connect.", 5 NC "No connect.", 6 NC "No connect.", 8 NC "No connect.", 10 NC "No connect.", 11 NC "No connect.", 12 NC "No connect.", 14 NC "No connect."

## Si8220CB-A-IS
designator U?
2.5 A ISOdrivers with Opto Input, 6.5 to 24 V Driver Supply, 2.5 kVRMS Isolation Rating, -40 to 125 degC, 8-pin SOIC; Manufacturer: Silicon Labs; PartNumber: Si8220CB-A-IS; 10kV surge: FALSE; Isolation Rating (Input-Output, kVrms): 2.5; Max. Prop. Delay (ns): 60; UVLO Voltage: 10 V; DatasheetVersion: Rev. 1.2; PackageReference: SOIC-8-NB; PackageDescription: 8-Pin Narrow Body Plastic Small Outline, Body 4.9 x 3.9 mm, Pitch 1.27 mm; Supplier 1: Digi-Key; Supplier Part Number 1: SI8220CB-A-IS-ND; Supplier 2: Mouser; Supplier Part Number 2: 634-SI8220CB-A-IS; Driver Supply: 6.5 to 24 V; Overlap Protection & Dead Time Control: FALSE; Sub-Family: ISOdrivers; Mounting Technology: Surface Mount; ComponentLink1Description: Manufacturer URL; ComponentLink1URL: http://www.silabs.com/; ComponentLink2Description: Datasheet; ComponentLink2URL: http://www.silabs.com/Support%20Documents/TechnicalDocs/Si8220-21.pdf; ComponentLink3Description: Package Specification; ComponentLink3URL: http://www.silabs.com/Support%20Documents/TechnicalDocs/Si8220-21.pdf
footprint SLAB-SOIC-8-NB_N (SOIC, 8-Leads, Body 5x4mm, Pitch 1.27mm, IPC Medium Density)
footprint SLAB-SOIC-8-NB_L (SOIC, 8-Leads, Body 5x4mm, Pitch 1.27mm, IPC High Density)
footprint SLAB-SOIC-8-NB_M (SOIC, 8-Leads, Body 5x4mm, Pitch 1.27mm, IPC Low Density)
pins: 1 NC "No connect.", 2 ANODE "Anode of LED emulator. VO follows the signal applied to this input with respect to the CATHODE input.", 3 CATHODE "Cathode of LED emulator. VO follows the signal applied to ANODE with respect to this input.", 4 NC "No connect.", 5 VSS (power) "External MOSFET source connection and ground reference for VDD. This terminal is typically connected to ground but may be tied to a negative or positive voltage.", 6 VO (out) "Output signal. Pins 6 and 7 are connected together internally.", 7 VO (out) "Output signal. Pins 6 and 7 are connected together internally.", 8 VDD (power) "Output-side power supply input referenced to VSS (24 V max)."

## Si8220CD-A-IS
designator U?
2.5 A ISOdrivers with Opto Input, 6.5 to 24 V Driver Supply, 5 kVRMS Isolation Rating, -40 to 125 degC, 16-pin SOIC; Manufacturer: Silicon Labs; PartNumber: Si8220CD-A-IS; 10kV surge: FALSE; Isolation Rating (Input-Output, kVrms): 5; Max. Prop. Delay (ns): 60; UVLO Voltage: 10 V; DatasheetVersion: Rev. 1.2; PackageReference: SOIC-16-WB; PackageDescription: 16-Pin Wide Body Plastic Small Outline, Body 10.3 x 7.5 mm, Pitch 1.27 mm; Supplier 1: Digi-Key; Supplier Part Number 1: SI8220CD-A-IS-ND; Supplier 2: Mouser; Supplier Part Number 2: 634-SI8220CD-A-IS; Driver Supply: 6.5 to 24 V; Overlap Protection & Dead Time Control: FALSE; Sub-Family: ISOdrivers; Mounting Technology: Surface Mount; Code_JEDEC: MS-013; ComponentLink1Description: Manufacturer URL; ComponentLink1URL: http://www.silabs.com/; ComponentLink2Description: Datasheet; ComponentLink2URL: http://www.silabs.com/Support%20Documents/TechnicalDocs/Si8220-21.pdf; ComponentLink3Description: Package Specification; ComponentLink3URL: https://www.silabs.com/Support%20Documents/TechnicalDocs/Si823x.pdf
footprint SLAB-SOIC-16-WB_N (SOIC, 16-Leads, Body 10.3x7.5mm, Pitch 1.27mm, IPC Medium Density)
footprint SLAB-SOIC-16-WB_L (SOIC, 16-Leads, Body 10.3x7.5mm, Pitch 1.27mm, IPC High Density)
footprint SLAB-SOIC-16-WB_M (SOIC, 16-Leads, Body 10.3x7.5mm, Pitch 1.27mm, IPC Low Density)
part A pins: 1 CATHODE "Cathode of LED emulator. VO follows the signal applied to ANODE with respect to this input.", 4 ANODE "Anode of LED emulator. VO follows the signal applied to this input with respect to the CATHODE input.", 7 CATHODE "Cathode of LED emulator. VO follows the signal applied to ANODE with respect to this input.", 9 VSS (power) "External MOSFET source connection and ground reference for VDD. This terminal is typically connected to ground but may be tied to a negative or positive voltage.", 13 VO (out) "Output signal.", 15 VDD (power) "Output-side power supply input referenced to VSS (24 V max).", 16 VSS (power) "External MOSFET source connection and ground reference for VDD. This terminal is typically connected to ground but may be tied to a negative or positive voltage."
part B pins: 2 NC "No connect.", 3 NC "No connect.", 5 NC "No connect.", 6 NC "No connect.", 8 NC "No connect.", 10 NC "No connect.", 11 NC "No connect.", 12 NC "No connect.", 14 NC "No connect."

## Si8220DB-A-IS
designator U?
2.5 A ISOdrivers with Opto Input, 6.5 to 24 V Driver Supply, 2.5 kVRMS Isolation Rating, -40 to 125 degC, 8-pin SOIC; Manufacturer: Silicon Labs; PartNumber: Si8220DB-A-IS; 10kV surge: FALSE; Isolation Rating (Input-Output, kVrms): 2.5; Max. Prop. Delay (ns): 60; UVLO Voltage: 12.5 V; DatasheetVersion: Rev. 1.2; PackageReference: SOIC-8-NB; PackageDescription: 8-Pin Narrow Body Plastic Small Outline, Body 4.9 x 3.9 mm, Pitch 1.27 mm; Supplier 1: Digi-Key; Supplier Part Number 1: 336-1917-5-ND; Supplier 2: Mouser; Supplier Part Number 2: 634-SI8220DB-A-IS; Driver Supply: 6.5 to 24 V; Overlap Protection & Dead Time Control: FALSE; Sub-Family: ISOdrivers; Mounting Technology: Surface Mount; ComponentLink1Description: Manufacturer URL; ComponentLink1URL: http://www.silabs.com/; ComponentLink2Description: Datasheet; ComponentLink2URL: http://www.silabs.com/Support%20Documents/TechnicalDocs/Si8220-21.pdf; ComponentLink3Description: Package Specification; ComponentLink3URL: http://www.silabs.com/Support%20Documents/TechnicalDocs/Si8220-21.pdf
footprint SLAB-SOIC-8-NB_N (SOIC, 8-Leads, Body 5x4mm, Pitch 1.27mm, IPC Medium Density)
footprint SLAB-SOIC-8-NB_L (SOIC, 8-Leads, Body 5x4mm, Pitch 1.27mm, IPC High Density)
footprint SLAB-SOIC-8-NB_M (SOIC, 8-Leads, Body 5x4mm, Pitch 1.27mm, IPC Low Density)
pins: 1 NC "No connect.", 2 ANODE "Anode of LED emulator. VO follows the signal applied to this input with respect to the CATHODE input.", 3 CATHODE "Cathode of LED emulator. VO follows the signal applied to ANODE with respect to this input", 4 NC "No connect.", 5 VSS (power) "External MOSFET source connection and ground reference for VDD. This terminal is typically connected to ground but may be tied to a negative or positive voltage.", 6 VO (out) "Output signal.", 7 VO (out) "Output signal.", 8 VDD (power) "Output-side power supply input referenced to VSS (24 V max)."